# EAGLE library part PIC16F81* (library microchip)
18/20-pin AD,CCP,1kW/2kW
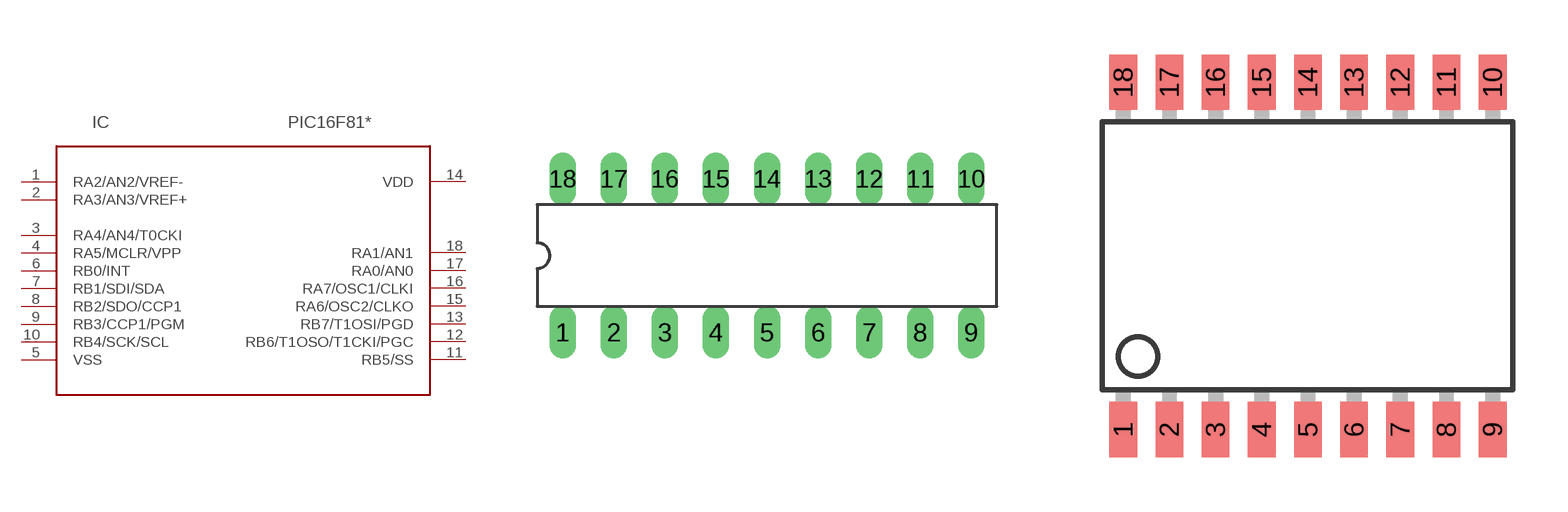
[diagram p26: symbol with the pads of DIL18; footprints DIL18, SO18-1]

Designator prefix IC

## PIC16F818DIP, PIC16F819DIP  [DIL18]
1  RA2/AN2/VREF-
2  RA3/AN3/VREF+
3  RA4/AN4/T0CKI
4  RA5/MCLR/VPP
5  VSS
6  RB0/INT
7  RB1/SDI/SDA
8  RB2/SDO/CCP1
9  RB3/CCP1/PGM
10  RB4/SCK/SCL
11  RB5/SS
12  RB6/T1OSO/T1CKI/PGC
13  RB7/T1OSI/PGD
14  VDD
15  RA6/OSC2/CLKO
16  RA7/OSC1/CLKI
17  RA0/AN0
18  RA1/AN1

## PIC16F818SO, PIC16F819SO  [SO18-1]

## Footprint DIL18 (pad centres in mm)
Dual In Line package type P
drill 0.813 long: 1 -10.16,-3.81; 2 -7.62,-3.81; 3 -5.08,-3.81; 4 -2.54,-3.81; 5 0,-3.81; 6 2.54,-3.81; 7 5.08,-3.81; 8 7.62,-3.81; 9 10.16,-3.81; 10 10.16,3.81; 11 7.62,3.81; 12 5.08,3.81; 13 2.54,3.81; 14 0,3.81; 15 -2.54,3.81; 16 -5.08,3.81; 17 -7.62,3.81; 18 -10.16,3.81

## Footprint SO18-1 (pad centres in mm)
smd 0.762 x 1.524: 1 -5.08,-4.775; 2 -3.81,-4.775; 3 -2.54,-4.775; 4 -1.27,-4.775; 5 0,-4.775; 6 1.27,-4.775; 7 2.54,-4.775; 8 3.81,-4.775; 9 5.08,-4.775; 10 5.08,4.775; 11 3.81,4.775; 12 2.54,4.775; 13 1.27,4.775; 14 0,4.775; 15 -1.27,4.775; 16 -2.54,4.775; 17 -3.81,4.775; 18 -5.08,4.775